# Altium schematic symbol library Fuse_SMD.SchLib: 2 symbols
Pins are listed as number, name and electrical type; pins without a type are passive.

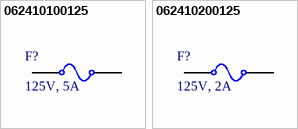
[diagram p0: symbols 062410100125 to 062410200125]

## 062410100125
designator F?, comment 125V, 5A
Surface Mount Fuses 125VAC 2A .0367ohms 451 NANO2; Manufacturer: Littelfuse; Manufacturer Part Number: 0451005.MRL; Fuse Type: Fast Blow; Threshold Current: 50 A; ComponentLink1Description: Datasheet; ComponentLink1URL: https://www.mouser.com/datasheet/2/240/media-3320775.pdf; Hold Current: 5A; Supplier 1 URL: https://www.mouser.com/ProductDetail/Littelfuse/0451005.MRL?qs=bpnLQM2ZShz7kyOW1vb2Jg%3D%3D; Supplier 2 URL: N/A; Supplier 3 URL: N/A; Threshold Voltage: 125 V; Value: 125V, 5A; Mount: SMT/SMD; Package / Case: 2410; Packaging: Tape and Reel; Supplier 1: Mouser; Supplier 1 Part Number: 576-0451005.MRL; Supplier 2: Digi-Key; Supplier 2 Part Number: N/A; Supplier 3: thegioiic; Supplier 3 Part Number: N/A; LCSC Part #: C48467
footprint FUSE_SMD_2410 (Chip Diode, 2-Leads, Body 6.10x2.70mm, IPC Medium Density)
pins: 0, 1

## 062410200125
designator F?, comment 125V, 2A
Surface Mount Fuses 125VAC 2A .0367ohms 451 NANO2; Manufacturer: Littelfuse; Manufacturer Part Number: 0451002.MRL; Fuse Type: Fast Blow; Threshold Current: 50 A; ComponentLink1Description: Datasheet; ComponentLink1URL: https://www.mouser.com/datasheet/2/240/media-3320775.pdf; Hold Current: 2A; Supplier 1 URL: https://www.mouser.com/ProductDetail/Littelfuse/0451002.MRL?qs=KOeOmFnJLTp7piF6A1IXgQ%3D%3D; Supplier 2 URL: N/A; Supplier 3 URL: N/A; Threshold Voltage: 125 V; Value: 125V, 2A; Mount: SMT/SMD; Package / Case: 2410; Packaging: Tape and Reel; Supplier 1: Mouser; Supplier 1 Part Number: 576-0451002.MRL; Supplier 2: Digi-Key; Supplier 2 Part Number: N/A; Supplier 3: thegioiic; Supplier 3 Part Number: N/A; LCSC Part #: C99547
footprint FUSE_SMD_2410 (Chip Diode, 2-Leads, Body 6.10x2.70mm, IPC Medium Density)
pins: 0, 1